# EAGLE library part MAX1678 (library max1678)
MAX1678 The MAX1678 is a high-efficiency, low-voltage, synchronous- rectified, step-up DC-DC converter intended for use in devices powered by 1 to 3-cell alkaline, NiMH, or NiCd batteries or a 1-cell lithium battery. It guarantees a 0.87V start-up voltage and features a low 37µA quiescent supply current.
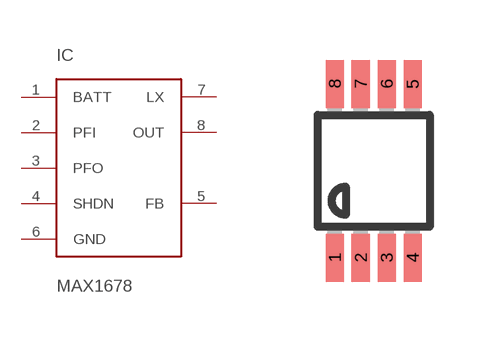
[diagram p0: symbol with the pads of UMAX8; footprint UMAX8]

Designator prefix IC

## MAX1678  [UMAX8]
1  BATT  pwr
2  PFI  in
3  PFO  out
4  SHDN  in
5  FB
6  GND  pwr
7  LX
8  OUT  out

## Footprint UMAX8 (pad centres in mm)
micro MAX Package
smd 0.45 x 1.2: 1 -0.975,-2.175; 2 -0.325,-2.175; 3 0.325,-2.175; 4 0.975,-2.175; 5 0.975,2.175; 6 0.325,2.175; 7 -0.325,2.175; 8 -0.975,2.175